# EAGLE library part 7-SEGMENT-DISPLAY (library CARA)
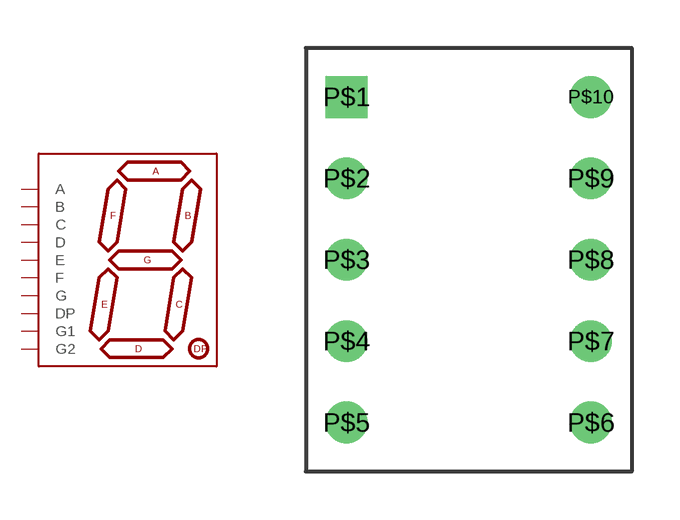
[diagram p1: symbol with the pads of KB-7SEG-0.39IN; footprint KB-7SEG-0.39IN]

Designator prefix -

## 7-SEGMENT-DISPLAYBLU  [KB-7SEG-0.39IN]
P$1  G
P$2  F
P$3  G1
P$4  E
P$5  D
P$6  DP
P$7  C
P$8  G2
P$9  B
P$10  A

## 7-SEGMENT-DISPLAYGRN  [KB-7SEG-0.39IN]
P$1  G1
P$2  F
P$3  G
P$4  E
P$5  D
P$6  G2
P$7  DP
P$8  C
P$9  B
P$10  A

## Footprint KB-7SEG-0.39IN (pad centres in mm)
drill 0.8 square: P$1 -3.81,5.08
drill 0.8: P$2 -3.81,2.54; P$3 -3.81,0; P$4 -3.81,-2.54; P$5 -3.81,-5.08; P$6 3.81,-5.08; P$7 3.81,-2.54; P$8 3.81,0; P$9 3.81,2.54; P$10 3.81,5.08